# Altium footprint library modules.PcbLib: 3 footprints
Each footprint in its own frame and in the unit in brackets; x right, y up, seen from the top. Pads: shape width x height; smd on the part's side, far side on the other; paste and mask are expansions set on the pad; w line width, h text height; cw(c..) or ccw(c..) is an arc to the next point about the centre after c.
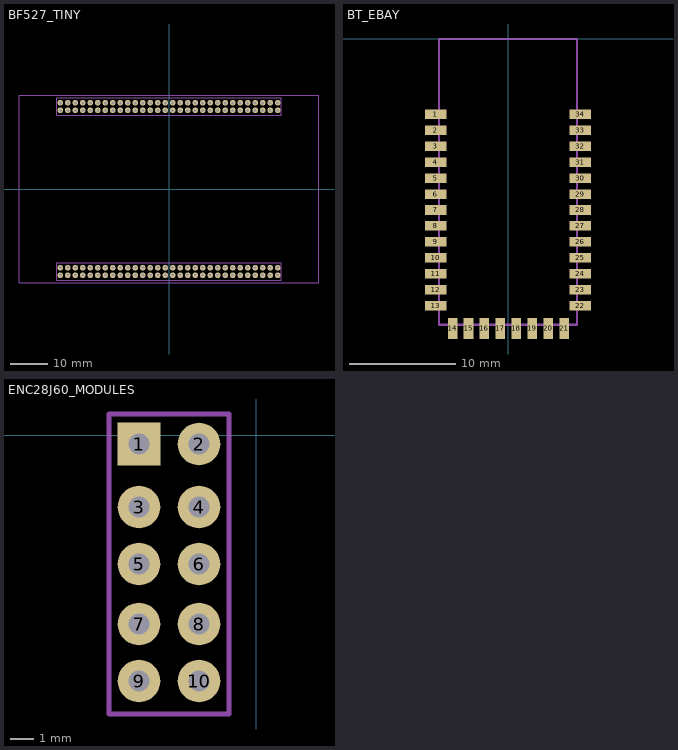
[diagram p0: the footprints below, top view; thin cyan lines are the x and y axes]

## BF527_TINY [mm]
pads (120):
  round 1.5 hole 0.8: X1_1(-29,-23) X1_2(-29,-21) X1_3(-27,-23) X1_4(-27,-21) X1_5(-25,-23) X1_6(-25,-21) X1_7(-23,-23) X1_8(-23,-21) X1_9(-21,-23) X1_10(-21,-21) X1_11(-19,-23) X1_12(-19,-21) X1_13(-17,-23) X1_14(-17,-21) X1_15(-15,-23) X1_16(-15,-21) X1_17(-13,-23) X1_18(-13,-21) X1_19(-11,-23) X1_20(-11,-21) X1_21(-9,-23) X1_22(-9,-21) X1_23(-7,-23) X1_24(-7,-21) X1_25(-5,-23) X1_26(-5,-21) X1_27(-3,-23) X1_28(-3,-21) X1_29(-1,-23) X1_30(-1,-21) X1_31(1,-23) X1_32(1,-21) X1_33(3,-23) X1_34(3,-21) X1_35(5,-23) X1_36(5,-21) X1_37(7,-23) X1_38(7,-21) X1_39(9,-23) X1_40(9,-21) X1_41(11,-23) X1_42(11,-21) X1_43(13,-23) X1_44(13,-21) X1_45(15,-23) X1_46(15,-21) X1_47(17,-23) X1_48(17,-21) X1_49(19,-23) X1_50(19,-21) X1_51(21,-23) X1_52(21,-21) X1_53(23,-23) X1_54(23,-21) X1_55(25,-23) X1_56(25,-21) X1_57(27,-23) X1_58(27,-21) X1_59(29,-23) X1_60(29,-21) X2_1(-29,21) X2_2(-29,23) X2_3(-27,21) X2_4(-27,23) X2_5(-25,21) X2_6(-25,23) X2_7(-23,21) X2_8(-23,23) X2_9(-21,21) X2_10(-21,23) X2_11(-19,21) X2_12(-19,23) X2_13(-17,21) X2_14(-17,23) X2_15(-15,21) X2_16(-15,23) X2_17(-13,21) X2_18(-13,23) X2_19(-11,21) X2_20(-11,23) X2_21(-9,21) X2_22(-9,23) X2_23(-7,21) X2_24(-7,23) X2_25(-5,21) X2_26(-5,23) X2_27(-3,21) X2_28(-3,23) X2_29(-1,21) X2_30(-1,23) X2_31(1,21) X2_32(1,23) X2_33(3,21) X2_34(3,23) X2_35(5,21) X2_36(5,23) X2_37(7,21) X2_38(7,23) X2_39(9,21) X2_40(9,23) X2_41(11,21) X2_42(11,23) X2_43(13,21) X2_44(13,23) X2_45(15,21) X2_46(15,23) X2_47(17,21) X2_48(17,23) X2_49(19,21) X2_50(19,23) X2_51(21,21) X2_52(21,23) X2_53(23,21) X2_54(23,23) X2_55(25,21) X2_56(25,23) X2_57(27,21) X2_58(27,23) X2_59(29,21) X2_60(29,23)
Mechanical 13:
  lines w0.2: 29.972,-24.3 -30,-24.3 -30,-19.7 30,-19.7 30,-24.3 ; 29.972,19.7 -30,19.7 -30,24.3 30,24.3 30,19.7 ; -40.005,-25.019 -40.005,25.019 40.005,25.019 40.005,-25.019 -40.005,-25.019
  text ".Designator" at -37.846,22.225 h1.52
  text "DC-DC" at -37.084,-22.225 h1.52
3D body: height 5.97, standoff -2.67, extent -30.149,-24.032 30.149,-20.032
3D body: height 5.97, standoff -2.67, extent -30.149,19.968 30.149,23.968
3D body: height 13.11, standoff 2.89, extent -39.995,-25 40.005,25

## BT_EBAY [mm]
pads (34):
  rect 2x0.9 smd: 1(-6.8,-7.1) 2(-6.8,-8.6) 3(-6.8,-10.1) 4(-6.8,-11.6) 5(-6.8,-13.1) 6(-6.8,-14.6) 7(-6.8,-16.1) 8(-6.8,-17.6) 9(-6.8,-19.1) 10(-6.8,-20.6) 11(-6.8,-22.1) 12(-6.8,-23.6) 13(-6.8,-25.1) 22(6.8,-25.1) 23(6.8,-23.6) 24(6.8,-22.1) 25(6.8,-20.6) 26(6.8,-19.1) 27(6.8,-17.6) 28(6.8,-16.1) 29(6.8,-14.6) 30(6.8,-13.1) 31(6.8,-11.6) 32(6.8,-10.1) 33(6.8,-8.6) 34(6.8,-7.1)
  rect 0.9x2 smd: 14(-5.219,-27.247) 15(-3.719,-27.247) 16(-2.219,-27.247) 17(-0.719,-27.247) 18(0.781,-27.247) 19(2.281,-27.247) 20(3.781,-27.247) 21(5.281,-27.247)
Mechanical 13:
  lines w0.2: -6.5,-26.9 -6.5,0 6.5,0 6.5,-26.9 -6.5,-26.9

## ENC28J60_MODULES [mm]
pads (10):
  rect 1.8x1.8 hole 0.9: 1(-4.953,-0.381)
  round 1.8 hole 0.9: 2(-2.413,-0.381) 3(-4.953,-3.048) 4(-2.413,-3.048) 5(-4.953,-5.461) 6(-2.413,-5.461) 7(-4.953,-8.001) 8(-2.413,-8.001) 9(-4.953,-10.414) 10(-2.413,-10.414)
Mechanical 13:
  lines w0.2: -6.223,-11.811 -1.143,-11.811 -1.143,0.889 -6.223,0.889 -6.223,-11.811
  text ".Designator" at -6.477,-10.795 h1.52